# Altium footprint library Kapasitor Kart v1.0.PcbLib: 2 footprints
Each footprint in its own frame and in the unit in brackets; x right, y up, seen from the top. Pads: shape width x height; smd on the part's side, far side on the other; paste and mask are expansions set on the pad; w line width, h text height; cw(c..) or ccw(c..) is an arc to the next point about the centre after c.
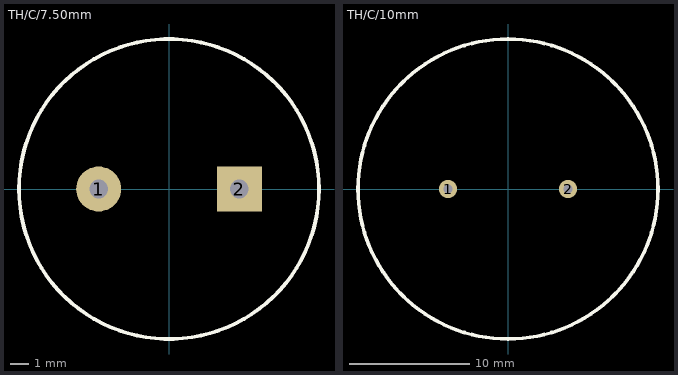
[diagram p0: the footprints below, top view; thin cyan lines are the x and y axes]

## TH/C/7.50mm [mm] "7.50mm Lead Space,18mm Dia TH Cap"
pads (2):
  round 2.4 hole 1: 1(-3.75,0)
  rect 2.4x2.4 hole 1: 2(3.75,0)
Top Overlay:
  circle w0.2: c0,0 r8
3D body "Aluminum_electrolytic_capacitor_radial_D16_H25_PinD0.8_Pitch7.5_nominal_blue.step": height 25, standoff -3, extent -8,-7.999 8,8

## TH/C/10mm [mil] "TH Capacitor 10mm Lead Space"
pads (2):
  round 60 hole 30: 1(-196.85,0) 2(196.85,0)
Top Overlay:
  circle w11.81: c0,0 r492.13